# Altium footprint library Passives.PcbLib: 43 footprints (part 1 of 3)
Each footprint in its own frame and in the unit in brackets; x right, y up, seen from the top. Pads: shape width x height; smd on the part's side, far side on the other; paste and mask are expansions set on the pad; w line width, h text height; cw(c..) or ccw(c..) is an arc to the next point about the centre after c.
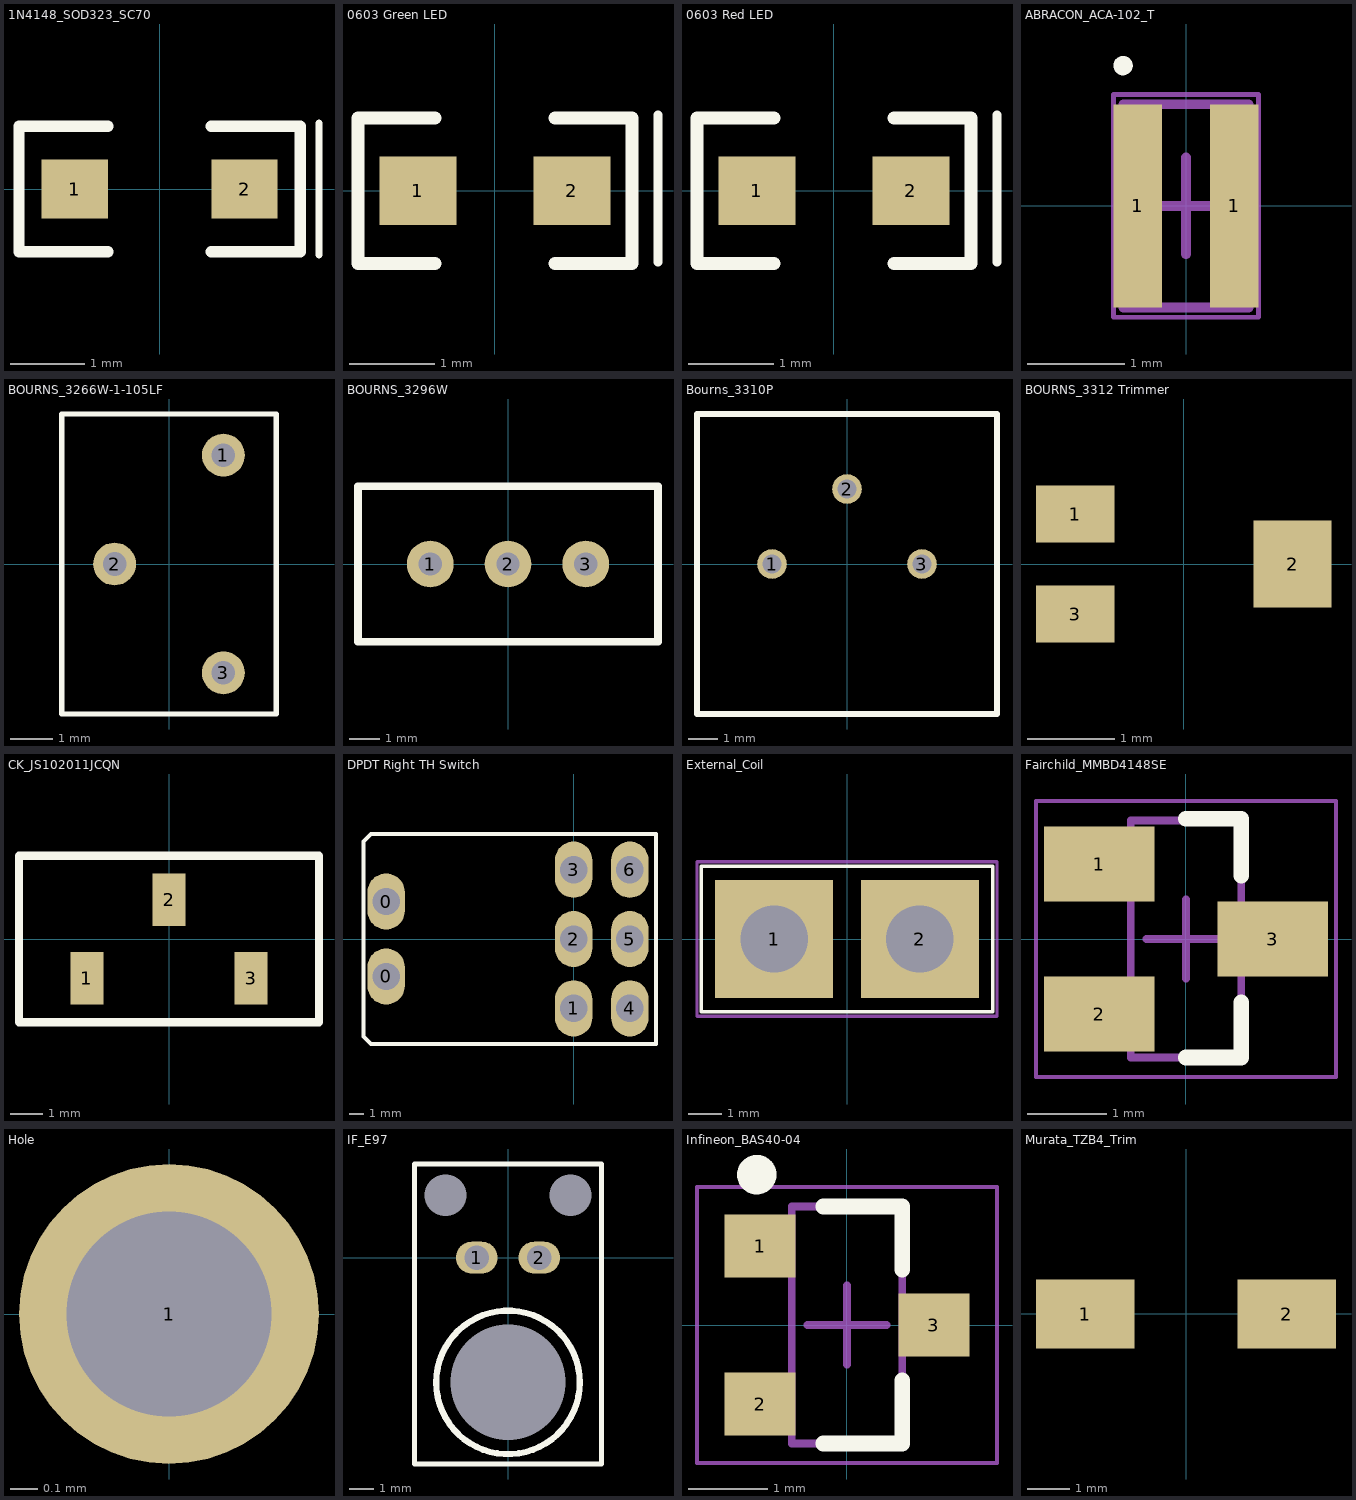
[diagram p0: the footprints below, top view; thin cyan lines are the x and y axes]

## 1N4148_SOD323_SC70 [mm]
pads (2):
  rect 0.9x0.8 smd: 1(-1.15,0) 2(1.15,0)
Top Overlay:
  lines w0.1: 2.159,-0.889 2.159,0.889
  lines w0.152: -0.7,-0.85 -1.905,-0.85 -1.905,0.85 -0.7,0.85 ; 0.7,-0.85 1.905,-0.85 1.905,0.85 0.7,0.85
3D body "RES0805.stp": height 0.5, standoff 0, extent -1,-0.63 1,0.62

## 0603 Green LED [mm]
pads (2):
  rect 0.9x0.8 smd: 1(-0.9,0) 2(0.9,0)
Top Overlay:
  lines w0.1: 1.905,-0.838 1.905,0.889
  lines w0.152: -0.7,-0.85 -1.6,-0.85 -1.6,0.85 -0.7,0.85 ; 0.7,-0.85 1.6,-0.85 1.6,0.85 0.7,0.85
3D body "0603 Green LED.STEP": height 0.49, standoff -0.06, extent -0.825,-0.4 0.775,0.4

## 0603 Red LED [mm]
pads (2):
  rect 0.9x0.8 smd: 1(-0.9,0) 2(0.9,0)
Top Overlay:
  lines w0.1: 1.905,-0.838 1.905,0.889
  lines w0.152: -0.7,-0.85 -1.6,-0.85 -1.6,0.85 -0.7,0.85 ; 0.7,-0.85 1.6,-0.85 1.6,0.85 0.7,0.85
3D body "0603 Green LED.STEP": height 0.49, standoff -0.06, extent -0.825,-0.4 0.775,0.4

## ABRACON_ACA-102_T [mm] "DFN, 2-Leads, Body 2.00x1.20mm, Pitch 0.90mm, IPC High Density"
height 1
pads (2):
  rect 0.5x2.1 smd: 1(-0.5,0) 1(0.5,0)
Top Overlay:
  circle w0.1: c-0.65,1.45 r0.05
Mechanical 13:
  lines w0.1: -0.65,-1.05 0.65,-1.05 0.65,1.05 -0.65,1.05 -0.65,-1.05
Mechanical 15:
  lines w0.05: -0.75,-1.15 0.75,-1.15 0.75,1.15 -0.75,1.15 -0.75,-1.15
  lines w0.1: -0.5,0 0.5,0 ; 0,-0.5 0,0.5
3D body "ABRACON_ACA-102_T.step": height 1, standoff 0, extent -0.65,-1.05 0.65,1.05

## BOURNS_3266W-1-105LF [mm] "1M_Linear_Pot"
pads (3):
  round 1 hole 0.55: 1(1.27,2.54) 2(-1.27,0) 3(1.27,-2.54)
Top Overlay:
  lines w0.127: -2.5,-3.5 2.5,-3.5 2.5,3.5 2.25,3.5 -2.5,3.5 -2.5,-3.5
3D body "3266W.stp": height 8.08, standoff -1.9, extent -2.223,-3.356 2.273,3.35

## BOURNS_3296W [mil] "20Kpot"
pads (3):
  round 60 hole 30: 1(-100,0) 2(0,0) 3(100,0)
Top Overlay:
  lines w10: -192.91,-100 192.91,-100 192.91,100 -192.91,100 -192.91,-100
3D body "3296W.stp": height 453.7, standoff -253.3, extent -187.5,-94.49 187.5,95.51

## Bourns_3310P [mm] "1M_POT"
pads (3):
  round 1 hole 0.635: 1(-2.54,0) 2(0,2.54) 3(2.54,0)
Top Overlay:
  lines w0.2: -5.08,-5.08 5.08,-5.08 5.08,5.08 -5.08,5.08 -5.08,-5.08
3D body "3310p-001.stp": height 5.48, standoff -17.7, extent -4.762,-4.826 4.763,4.699

## BOURNS_3312 Trimmer [mm]
pads (3):
  rect 0.9x0.65 smd mask+0.05: 1(-1.25,0.575) 3(-1.25,-0.575)
  rect 0.9x1 smd mask+0.05: 2(1.25,0)
3D body "3312J.stp": height 1.77, standoff -0.02, extent -1.422,-1.25 1.422,1.332

## CK_JS102011JCQN [mm] "SPDT Switch"
pads (3):
  rect 1x1.6 smd: 1(-2.5,-1.2) 2(0,1.2) 3(2.5,-1.2)
Top Overlay:
  lines w0.254: -4.572,-2.54 -4.572,2.54 4.572,2.54 4.572,-2.54 -4.572,-2.54
3D body "JS102011JCQN.sldprt": height 5.57, standoff -0.03, extent -4.25,-2.05 4.25,2.05

## DPDT Right TH Switch [mil]
pads (8):
  oval 100x150 hole 73 unplated: 0(-500,-100) 0(-500,100)
  oval 100x150 hole 73: 1(0,-185) 2(0,0) 3(0,185) 4(150,-185) 5(150,0) 6(150,185)
Top Overlay:
  lines w10: -560,-260 -540,-280 220,-280 220,280 -540,280 -560,260 -560,100 -560,-260
3D body "100DPxT2B4M6xE.stp": height 455, standoff -119.8, extent -1056.14,-249.99 174.96,250.01

## External_Coil [mm]
pads (2):
  rect 3.5x3.5 hole 2: 1(-2.159,0) 2(2.159,0)
Top Overlay:
  lines w0.1: -4.318,-2.159 -4.318,2.159 4.318,2.159 4.318,-2.159 -4.318,-2.159
Mechanical 15:
  lines w0.1: -4.445,-2.286 4.445,-2.286 4.445,2.286 -4.445,2.286 -4.445,-2.286

## Fairchild_MMBD4148SE [mm]
height 1.1
pads (3):
  rect 1.4x0.95 smd: 1(-1.1,0.95) 2(-1.1,-0.95) 3(1.1,0)
Top Overlay:
  lines w0.2: 0,-1.5 0.7,-1.5 0.7,-0.8 ; 0,1.524 0.7,1.524 0.7,0.8
Mechanical 13:
  lines w0.1: -0.7,-1.5 0.7,-1.5 0.7,1.5 -0.7,1.5 -0.7,-1.5
Mechanical 15:
  lines w0.05: -1.9,-1.75 1.9,-1.75 1.9,1.75 -1.9,1.75 -1.9,-1.75
  lines w0.1: -0.5,0 0.5,0 ; 0,-0.5 0,0.5
3D body "Infineon_BAS40-04.step": height 1.1, standoff 0, extent -1.325,-1.5 1.325,1.5

## Hole [mm]
pads (1):
  round 1.1 hole 0.75: 1(0,0)

## IF_E97 [mm] "High power red LED for low data rates"
pads (5):
  oval 1.7x1.3 hole 1: 1(-1.27,0) 2(1.27,0)
  round 1 hole 1.7: ""(-2.54,2.54) ""(2.54,2.54)
  round 1 hole 4.699: ""(0,-5.08)
Top Overlay:
  circle w0.254: c0,-5.08 r2.921
  lines w0.2: -3.81,-8.4 -3.81,3.81 3.81,3.81 3.81,-8.4 -3.81,-8.4
3D body "IF_E97.stp": height 11.3, standoff -9.45, extent -4.314,-8.306 4.315,19.437

## Infineon_BAS40-04 [mm] "SOT23, 3-Leads, Body 2.90x2.40mm, Pitch 0.95mm, IPC Medium Density"
height 1.1
pads (3):
  rect 0.9x0.8 smd: 1(-1.1,1) 2(-1.1,-1) 3(1.1,0)
Top Overlay:
  circle w0.25: c-1.143,1.905 r0.125
  lines w0.2: -0.3,-1.5 0.7,-1.5 0.7,-0.7 ; -0.3,1.5 0.7,1.5 0.7,0.7
Mechanical 13:
  lines w0.1: -0.7,-1.5 0.7,-1.5 0.7,1.5 -0.7,1.5 -0.7,-1.5
Mechanical 15:
  lines w0.05: -1.9,-1.75 1.9,-1.75 1.9,1.75 -1.9,1.75 -1.9,-1.75
  lines w0.1: -0.5,0 0.5,0 ; 0,-0.5 0,0.5
3D body "Infineon_BAS40-04.step": height 1.1, standoff 0, extent -1.325,-1.5 1.325,1.5

## Murata_TZB4_Trim [mm] "Trim Cap"
pads (2):
  rect 2.3x1.6 smd: 1(-2.35,0) 2(2.35,0)
3D body "sss.step": height 3.2, standoff 0, extent -2.57,-2.1 2.57,2.1